# Altium footprint library SPSTNC.PcbLib: 2 footprints
Each footprint in its own frame and in the unit in brackets; x right, y up, seen from the top. Pads: shape width x height; smd on the part's side, far side on the other; paste and mask are expansions set on the pad; w line width, h text height; cw(c..) or ccw(c..) is an arc to the next point about the centre after c.
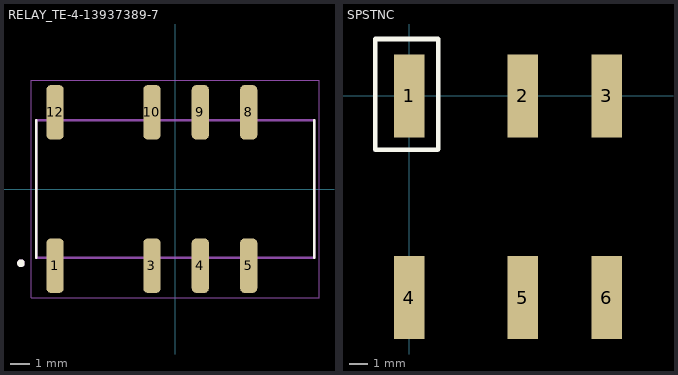
[diagram p0: the footprints below, top view; thin cyan lines are the x and y axes]

## RELAY_TE-4-13937389-7 [mm]
pads (8):
  rrect50% 0.9x2.85 smd: 1(-6.3,-4.025) 3(-1.22,-4.025) 4(1.32,-4.025) 5(3.86,-4.025) 8(3.86,4.025) 9(1.32,4.025) 10(-1.22,4.025) 12(-6.3,4.025)
Top Overlay:
  circle w0.2: c-8.096,-3.893 r0.1
  lines w0.127: -7.3,-3.6 -7.3,3.6 ; 7.3,-3.6 7.3,3.6
Mechanical 13:
  circle w0.2: c-8.096,-3.893 r0.1
  lines w0.127: -7.3,-3.6 -7.3,3.6 7.3,3.6 7.3,-3.6 -7.3,-3.6
Mechanical 15:
  lines w0.05: -7.55,-5.7 -7.55,5.7 7.55,5.7 7.55,-5.7 -7.55,-5.7

## SPSTNC [mm]
pads (6):
  rect 1.7x4.6 all layers, no hole: 1(0,0) 2(6.3,0) 3(10.95,0) 4(0,-11.2) 5(6.3,-11.2) 6(10.95,-11.2)
Top Overlay:
  lines w0.254: -1.889,-3.001 -1.889,1.258 -1.889,2.032 -1.889,3.162 0,3.162 1.612,3.162 1.612,-2.968 1.579,-3.001 -1.889,-3.001